# EAGLE library part M12-ONC (library 000001)
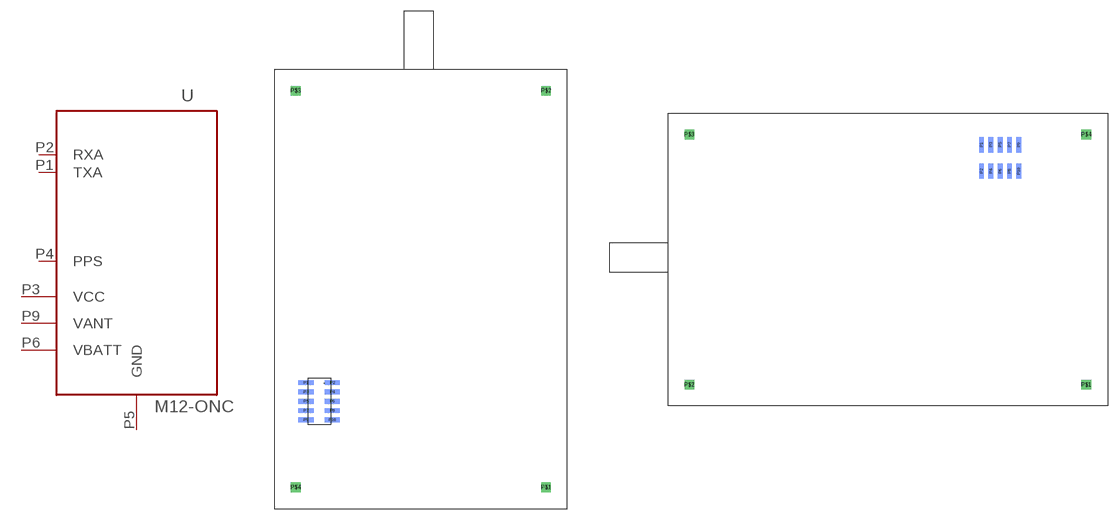
[diagram p82: symbol with the pads of ONC_M12; footprints ONC_M12, ONC_M12_B]

Designator prefix -

## M12-ONCJ  [ONC_M12]
P1  TXA  out
P2  RXA  in
P3  VCC  pwr
P4  PPS  out
P5  GND  pwr
P6  VBATT  pwr
P9  VANT  pwr

## M12-ONCY  [ONC_M12_B]
Pads as for ONC_M12

## Footprint ONC_M12 (pad centres in mm)
smd 2.1 x 0.65 bottom: P1 -15.39,-13.59; P2 -11.79,-13.59; P3 -15.39,-14.86; P4 -11.79,-14.86; P5 -15.39,-16.13; P6 -11.79,-16.13; P7 -15.39,-17.4; P8 -11.79,-17.4; P9 -15.39,-18.67; P10 -11.79,-18.67
drill 0.8 square: P$1 17.415,-27.89; P$2 17.415,26.31; P$3 -16.785,26.31; P$4 -16.785,-27.89

## Footprint ONC_M12_B (pad centres in mm)
smd 0.65 x 2.1 bottom: P1 13.59,15.39; P2 13.59,11.79; P3 14.86,15.39; P4 14.86,11.79; P5 16.13,15.39; P6 16.13,11.79; P7 17.4,15.39; P8 17.4,11.79; P9 18.67,15.39; P10 18.67,11.79
drill 0.8 square: P$1 27.89,-17.415; P$2 -26.31,-17.415; P$3 -26.31,16.785; P$4 27.89,16.785